# Altium integrated library HC-49_U-S16000000ABJB.IntLib: 1 symbol
Pins are listed as number, name and electrical type; pins without a type are passive.

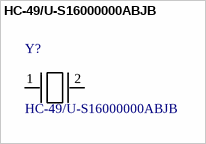
[diagram p0: symbol HC-49/U-S16000000ABJB]

## HC-49/U-S16000000ABJB
designator Y?
/ HC49US Series 16 MHz Â±30 ppm 18 pF -20 to +70 Â°C Through Hole AT-CUT Crystal /; MF: Citizen Finedevice; Digi-Key_Purchase_URL: https://www.digikey.de/product-detail/en/citizen-finedevice-co-ltd/HC-49-U-S16000000ABJB/300-6034-ND/284222?utm_source=snapeda&utm_medium=aggregator&utm_campaign=symbol; Digi-Key_Part_Number: 300-6034-ND; Package: HC-49/US Citizen Finedevice; SnapEDA_Link: https://www.snapeda.com/parts/HC-49/U-S16000000ABJB/Citizen%20Finedevice%20Co%20Ltd/view-part/?ref=snap; MP: HC-49/U-S16000000ABJB; Value: *
footprint *XTAL_HC49P488W43L1150T466H350
pins: 1, 2